# Altium schematic symbol library HC-05.SchLib: 1 symbol
Pins are listed as number, name and electrical type; pins without a type are passive.

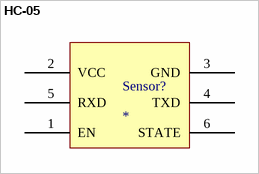
[diagram p0: symbol HC-05]

## HC-05
designator Sensor?
footprint HC-05 (Pin Header, pitch 2.54 mm, THT, Vertical, single row, 6p)
pins: 1 EN, 2 VCC, 3 GND, 4 TXD, 5 RXD, 6 STATE